# Altium footprint library MCU.PcbLib: 14 footprints
Each footprint in its own frame and in the unit in brackets; x right, y up, seen from the top. Pads: shape width x height; smd on the part's side, far side on the other; paste and mask are expansions set on the pad; w line width, h text height; cw(c..) or ccw(c..) is an arc to the next point about the centre after c.
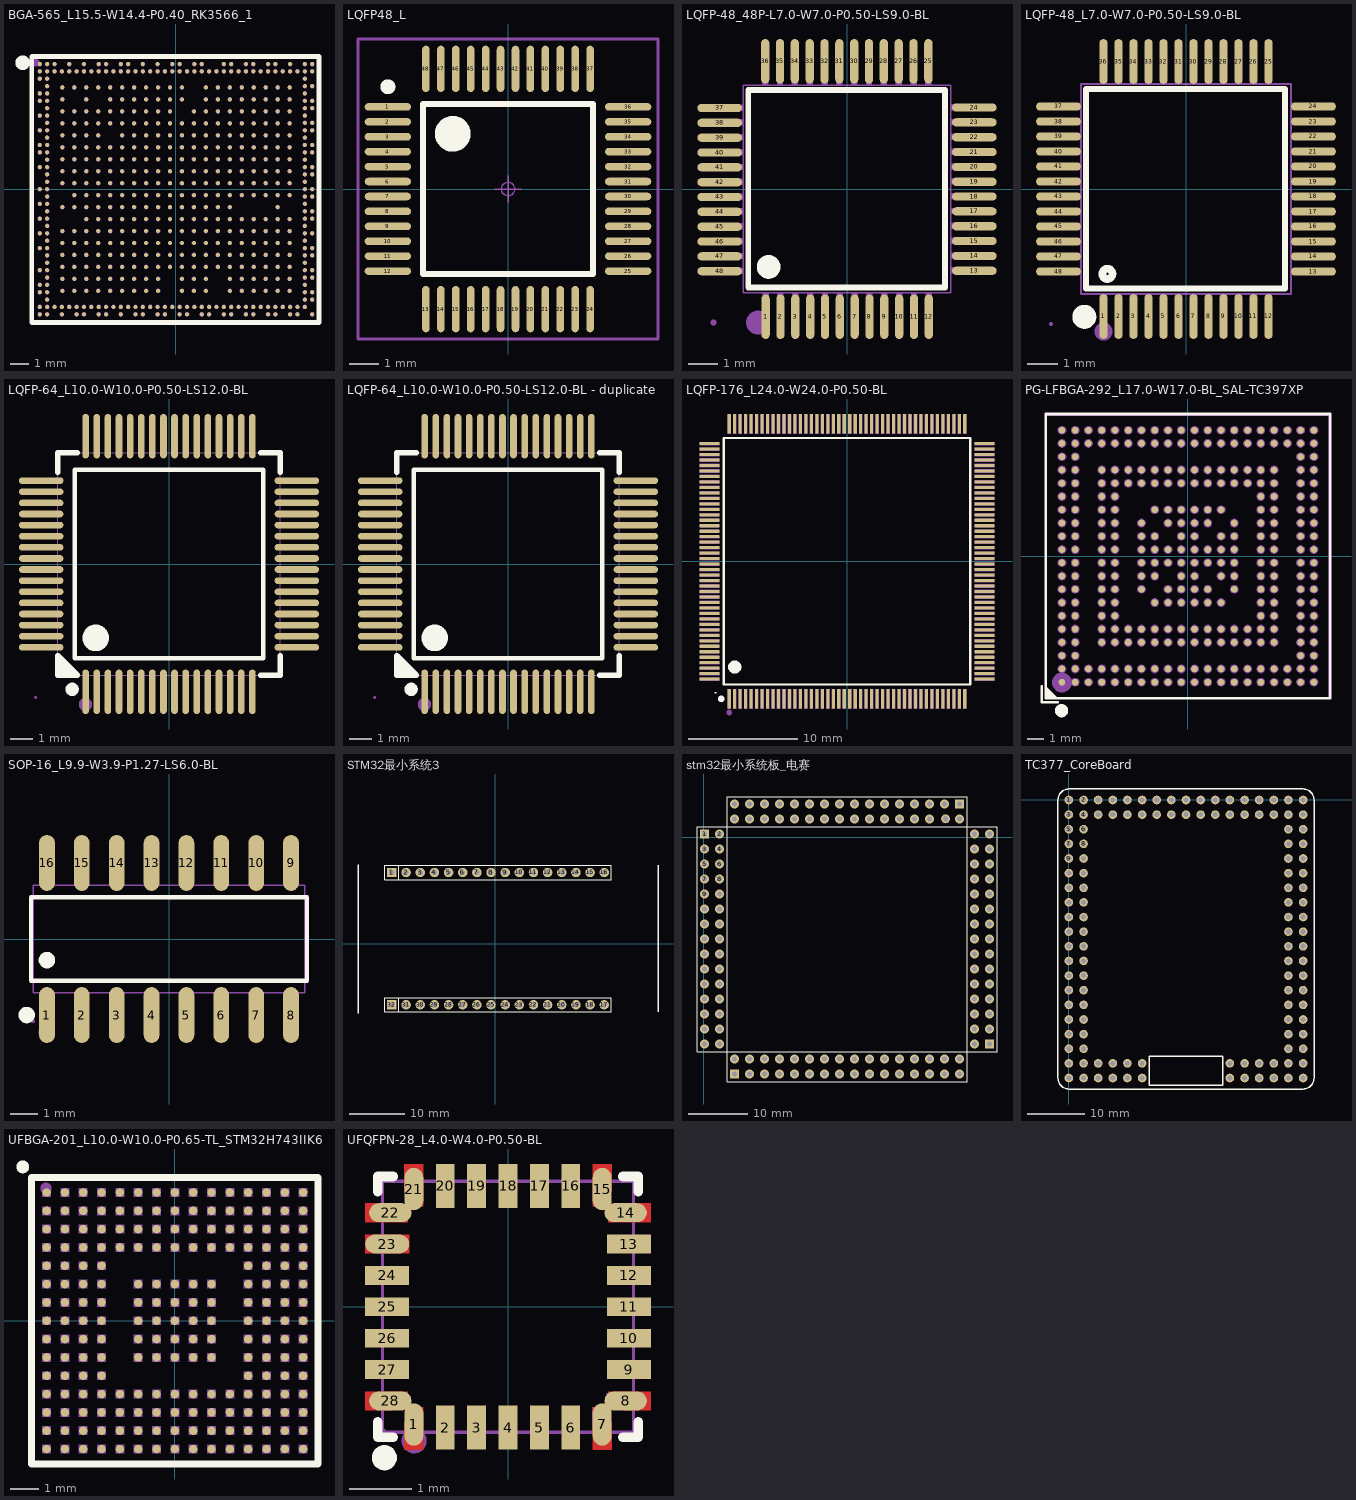
[diagram p0: the footprints below, top view; thin cyan lines are the x and y axes]

## BGA-565_L15.5-W14.4-P0.40_RK3566_1 [mm]
pads (565):
  round 0.22 smd: 1A1(-6.175,5.525) 1A2(-5.525,5.525) 1A3(-4.875,5.525) 1A4(-4.225,5.525) 1A5(-3.575,5.525) 1A6(-2.925,5.525) 1A7(-2.275,5.525) 1A8(-1.625,5.525) 1A9(-0.975,5.525) 1A10(-0.325,5.525) 1A11(0.325,5.525) 1A13(1.625,5.525) 1A14(2.275,5.525) 1A15(2.925,5.525) 1A16(3.575,5.525) 1A17(4.225,5.525) 1A18(4.875,5.525) 1A19(5.525,5.525) 1A20(6.175,5.525) 1B1(-6.175,4.875) 1B3(-4.875,4.875) 1B5(-3.575,4.875) 1B6(-2.925,4.875) 1B7(-2.275,4.875) 1B8(-1.625,4.875) 1B9(-0.975,4.875) 1B10(-0.325,4.875) 1B11(0.325,4.875) 1B13(1.625,4.875) 1B14(2.275,4.875) 1B15(2.925,4.875) 1B16(3.575,4.875) 1B17(4.225,4.875) 1B18(4.875,4.875) 1B19(5.525,4.875) 1B20(6.175,4.875) 1C1(-6.175,4.225) 1C2(-5.525,4.225) 1C3(-4.875,4.225) 1C4(-4.225,4.225) 1C5(-3.575,4.225) 1C6(-2.925,4.225) 1C7(-2.275,4.225) 1C8(-1.625,4.225) 1C9(-0.975,4.225) 1C10(-0.325,4.225) 1C12(0.975,4.225) 1C13(1.625,4.225) 1C14(2.275,4.225) 1C15(2.925,4.225) 1C16(3.575,4.225) 1C17(4.225,4.225) 1C18(4.875,4.225) 1C19(5.525,4.225) 1C20(6.175,4.225) 1D1(-6.175,3.575) 1D2(-5.525,3.575) 1D3(-4.875,3.575) 1D4(-4.225,3.575) 1D5(-3.575,3.575) 1D6(-2.925,3.575) 1D7(-2.275,3.575) 1D8(-1.625,3.575) 1D9(-0.975,3.575) 1D10(-0.325,3.575) 1D11(0.325,3.575) 1D12(0.975,3.575) 1D13(1.625,3.575) 1D14(2.275,3.575) 1D15(2.925,3.575) 1D16(3.575,3.575) 1D17(4.225,3.575) 1D18(4.875,3.575) 1D19(5.525,3.575) 1D20(6.175,3.575) 1E1(-6.175,2.925) 1E2(-5.525,2.925) 1E3(-4.875,2.925) 1E4(-4.225,2.925) 1E6(-2.925,2.925) 1E7(-2.275,2.925) 1E8(-1.625,2.925) 1E9(-0.975,2.925) 1E10(-0.325,2.925) 1E11(0.325,2.925) 1E12(0.975,2.925) 1E13(1.625,2.925) 1E14(2.275,2.925) 1E15(2.925,2.925) 1E16(3.575,2.925) 1E17(4.225,2.925) 1E18(4.875,2.925) 1E19(5.525,2.925) 1E20(6.175,2.925) 1F1(-6.175,2.275) 1F2(-5.525,2.275) 1F3(-4.875,2.275) 1F4(-4.225,2.275) 1F5(-3.575,2.275) 1F6(-2.925,2.275) 1F7(-2.275,2.275) 1F8(-1.625,2.275) 1F9(-0.975,2.275) 1F10(-0.325,2.275) 1F11(0.325,2.275) 1F12(0.975,2.275) 1F13(1.625,2.275) 1F14(2.275,2.275) 1F15(2.925,2.275) 1F16(3.575,2.275) 1F17(4.225,2.275) 1F18(4.875,2.275) 1F19(5.525,2.275) 1F20(6.175,2.275) 1G1(-6.175,1.625) 1G2(-5.525,1.625) 1G3(-4.875,1.625) 1G4(-4.225,1.625) 1G5(-3.575,1.625) 1G6(-2.925,1.625) 1G7(-2.275,1.625) 1G8(-1.625,1.625) 1G9(-0.975,1.625) 1G10(-0.325,1.625) 1G11(0.325,1.625) 1G12(0.975,1.625) 1G13(1.625,1.625) 1G14(2.275,1.625) 1G15(2.925,1.625) 1G16(3.575,1.625) 1G17(4.225,1.625) 1G18(4.875,1.625) 1G19(5.525,1.625) 1G20(6.175,1.625) 1H1(-6.175,0.975) 1H2(-5.525,0.975) 1H3(-4.875,0.975) 1H4(-4.225,0.975) 1H5(-3.575,0.975) 1H6(-2.925,0.975) 1H7(-2.275,0.975) 1H8(-1.625,0.975) 1H9(-0.975,0.975) 1H10(-0.325,0.975) 1H11(0.325,0.975) 1H12(0.975,0.975) 1H13(1.625,0.975) 1H14(2.275,0.975) 1H15(2.925,0.975) 1H16(3.575,0.975) 1H17(4.225,0.975) 1H18(4.875,0.975) 1H19(5.525,0.975) 1H20(6.175,0.975) 1J1(-6.175,0.325) 1J2(-5.525,0.325) 1J3(-4.875,0.325) 1J4(-4.225,0.325) 1J5(-3.575,0.325) 1J6(-2.925,0.325) 1J7(-2.275,0.325) 1J8(-1.625,0.325) 1J9(-0.975,0.325) 1J10(-0.325,0.325) 1J11(0.325,0.325) 1J12(0.975,0.325) 1J13(1.625,0.325) 1J14(2.275,0.325) 1J15(2.925,0.325) 1J16(3.575,0.325) 1J17(4.225,0.325) 1J18(4.875,0.325) 1J19(5.525,0.325) 1J20(6.175,0.325) 1K2(-5.525,-0.325) 1K3(-4.875,-0.325) 1K4(-4.225,-0.325) 1K5(-3.575,-0.325) 1K6(-2.925,-0.325) 1K7(-2.275,-0.325) 1K8(-1.625,-0.325) 1K9(-0.975,-0.325) 1K10(-0.325,-0.325) 1K11(0.325,-0.325) 1K12(0.975,-0.325) 1K13(1.625,-0.325) 1K14(2.275,-0.325) 1K15(2.925,-0.325) 1K16(3.575,-0.325) 1K17(4.225,-0.325) 1K18(4.875,-0.325) 1K19(5.525,-0.325) 1K20(6.175,-0.325) 1L1(-6.175,-0.975) 1L2(-5.525,-0.975) 1L3(-4.875,-0.975) 1L4(-4.225,-0.975) 1L5(-3.575,-0.975) 1L6(-2.925,-0.975) 1L7(-2.275,-0.975) 1L8(-1.625,-0.975) 1L9(-0.975,-0.975) 1L10(-0.325,-0.975) 1L11(0.325,-0.975) 1L12(0.975,-0.975) 1L13(1.625,-0.975) 1L14(2.275,-0.975) 1L15(2.925,-0.975) 1L19(5.525,-0.975) 1M3(-4.875,-1.625) 1M4(-4.225,-1.625) 1M5(-3.575,-1.625) 1M6(-2.925,-1.625) 1M7(-2.275,-1.625) 1M8(-1.625,-1.625) 1M9(-0.975,-1.625) 1M10(-0.325,-1.625) 1M11(0.325,-1.625) 1M12(0.975,-1.625) 1M13(1.625,-1.625) 1M14(2.275,-1.625) 1M15(2.925,-1.625) 1M16(3.575,-1.625) 1M17(4.225,-1.625) 1M18(4.875,-1.625) 1M19(5.525,-1.625) 1M20(6.175,-1.625) 1N1(-6.175,-2.275) 1N2(-5.525,-2.275) 1N3(-4.875,-2.275) 1N4(-4.225,-2.275) 1N5(-3.575,-2.275) 1N6(-2.925,-2.275) 1N7(-2.275,-2.275) 1N8(-1.625,-2.275) 1N9(-0.975,-2.275) 1N10(-0.325,-2.275) 1N11(0.325,-2.275) 1N12(0.975,-2.275) 1N13(1.625,-2.275) 1N14(2.275,-2.275) 1N15(2.925,-2.275) 1N16(3.575,-2.275) 1N17(4.225,-2.275) 1N18(4.875,-2.275) 1N19(5.525,-2.275) 1N20(6.175,-2.275) 1P1(-6.175,-2.925) 1P2(-5.525,-2.925) 1P3(-4.875,-2.925) 1P4(-4.225,-2.925) 1P5(-3.575,-2.925) 1P6(-2.925,-2.925) 1P7(-2.275,-2.925) 1P8(-1.625,-2.925) 1P9(-0.975,-2.925) 1P10(-0.325,-2.925) 1P11(0.325,-2.925) 1P12(0.975,-2.925) 1P13(1.625,-2.925) 1P14(2.275,-2.925) 1P15(2.925,-2.925) 1P16(3.575,-2.925) 1P17(4.225,-2.925) 1P18(4.875,-2.925) 1P19(5.525,-2.925) 1P20(6.175,-2.925) 1R1(-6.175,-3.575) 1R2(-5.525,-3.575) 1R3(-4.875,-3.575) 1R4(-4.225,-3.575) 1R5(-3.575,-3.575) 1R6(-2.925,-3.575) 1R7(-2.275,-3.575) 1R8(-1.625,-3.575) 1R9(-0.975,-3.575) 1R10(-0.325,-3.575) 1R11(0.325,-3.575) 1R12(0.975,-3.575) 1R13(1.625,-3.575) 1R14(2.275,-3.575) 1R15(2.925,-3.575) 1R16(3.575,-3.575) 1R17(4.225,-3.575) 1R18(4.875,-3.575) 1R19(5.525,-3.575) 1R20(6.175,-3.575) 1T1(-6.175,-4.225) 1T2(-5.525,-4.225) 1T3(-4.875,-4.225) 1T4(-4.225,-4.225) 1T5(-3.575,-4.225) 1T6(-2.925,-4.225) 1T7(-2.275,-4.225) 1T8(-1.625,-4.225) 1T9(-0.975,-4.225) 1T10(-0.325,-4.225) 1T11(0.325,-4.225) 1T12(0.975,-4.225) 1T13(1.625,-4.225) 1T14(2.275,-4.225) 1T15(2.925,-4.225) 1T16(3.575,-4.225) 1T17(4.225,-4.225) 1T18(4.875,-4.225) 1T19(5.525,-4.225) 1T20(6.175,-4.225) 1U1(-6.175,-4.875) 1U2(-5.525,-4.875) 1U3(-4.875,-4.875) 1U4(-4.225,-4.875) 1U5(-3.575,-4.875) 1U6(-2.925,-4.875) 1U7(-2.275,-4.875) 1U8(-1.625,-4.875) 1U9(-0.975,-4.875) 1U11(0.325,-4.875) 1U12(0.975,-4.875) 1U13(1.625,-4.875) 1U15(2.925,-4.875) 1U16(3.575,-4.875) 1U17(4.225,-4.875) 1U18(4.875,-4.875) 1U19(5.525,-4.875) 1U20(6.175,-4.875) 1V1(-6.175,-5.525) 1V2(-5.525,-5.525) 1V3(-4.875,-5.525) 1V4(-4.225,-5.525) 1V5(-3.575,-5.525) 1V6(-2.925,-5.525) 1V7(-2.275,-5.525) 1V8(-1.625,-5.525) 1V9(-0.975,-5.525) 1V11(0.325,-5.525) 1V12(0.975,-5.525) 1V13(1.625,-5.525) 1V15(2.925,-5.525) 1V16(3.575,-5.525) 1V17(4.225,-5.525) 1V18(4.875,-5.525) 1V19(5.525,-5.525) 1V20(6.175,-5.525)
  round 0.22 smd paste+0 mask+0.038: A1(-7.4,6.8) A2(-7,6.8) A3(-6.6,6.8) A5(-5.8,6.8) A7(-5,6.8) A9(-4.2,6.8) A10(-3.8,6.8) A12(-3,6.8) A13(-2.6,6.8) A15(-1.8,6.8) A17(-1,6.8) A19(-0.2,6.8) A20(0.2,6.8) A22(1,6.8) A23(1.4,6.8) A26(2.6,6.8) A27(3,6.8) A29(3.8,6.8) A30(4.2,6.8) A32(5,6.8) A33(5.4,6.8) A35(6.2,6.8) A37(7,6.8) A38(7.4,6.8) AA2(-7,-1.2) AA37(7,-1.2) AA38(7.4,-1.2) AB1(-7.4,-1.6) AB2(-7,-1.6) AB37(7,-1.6) AB38(7.4,-1.6) AC2(-7,-2) AC37(7,-2) AD1(-7.4,-2.4) AD2(-7,-2.4) AD37(7,-2.4) AD38(7.4,-2.4) AE2(-7,-2.8) AE37(7,-2.8) AF1(-7.4,-3.2) AF2(-7,-3.2) AF37(7,-3.2) AF38(7.4,-3.2) AG2(-7,-3.6) AG37(7,-3.6) AG38(7.4,-3.6) AH2(-7,-4) AH37(7,-4) AJ1(-7.4,-4.4) AJ2(-7,-4.4) AJ37(7,-4.4) AJ38(7.4,-4.4) AK2(-7,-4.8) AK37(7,-4.8) AK38(7.4,-4.8) AL1(-7.4,-5.2) AL2(-7,-5.2) AL37(7,-5.2) AM1(-7.4,-5.6) AM2(-7,-5.6) AM37(7,-5.6) AM38(7.4,-5.6) AN2(-7,-6) AN37(7,-6) AN38(7.4,-6) AP1(-7.4,-6.4) AP2(-7,-6.4) AP3(-6.6,-6.4) AP4(-6.2,-6.4) AP5(-5.8,-6.4) AP6(-5.4,-6.4) AP7(-5,-6.4) AP8(-4.6,-6.4) AP9(-4.2,-6.4) AP10(-3.8,-6.4) AP11(-3.4,-6.4) AP12(-3,-6.4) AP13(-2.6,-6.4) AP14(-2.2,-6.4) AP15(-1.8,-6.4) AP16(-1.4,-6.4) AP17(-1,-6.4) AP18(-0.6,-6.4) AP19(-0.2,-6.4) AP20(0.2,-6.4) AP21(0.6,-6.4) AP22(1,-6.4) AP23(1.4,-6.4) AP24(1.8,-6.4) AP25(2.2,-6.4) AP26(2.6,-6.4) AP27(3,-6.4) AP28(3.4,-6.4) AP29(3.8,-6.4) AP30(4.2,-6.4) AP31(4.6,-6.4) AP32(5,-6.4) AP33(5.4,-6.4) AP34(5.8,-6.4) AP35(6.2,-6.4) AP36(6.6,-6.4) AP37(7,-6.4) AR1(-7.4,-6.8) AR2(-7,-6.8) AR4(-6.2,-6.8) AR6(-5.4,-6.8) AR7(-5,-6.8) AR9(-4.2,-6.8) AR10(-3.8,-6.8) AR12(-3,-6.8) AR14(-2.2,-6.8) AR15(-1.8,-6.8) AR17(-1,-6.8) AR18(-0.6,-6.8) AR20(0.2,-6.8) AR21(0.6,-6.8) AR23(1.4,-6.8) AR24(1.8,-6.8) AR26(2.6,-6.8) AR27(3,-6.8) AR29(3.8,-6.8) AR30(4.2,-6.8) AR32(5,-6.8) AR33(5.4,-6.8) AR35(6.2,-6.8) AR36(6.6,-6.8) AR38(7.4,-6.8) B1(-7.4,6.4) B2(-7,6.4) B3(-6.6,6.4) B4(-6.2,6.4) B5(-5.8,6.4) B6(-5.4,6.4) B7(-5,6.4) B8(-4.6,6.4) B9(-4.2,6.4) B10(-3.8,6.4) B11(-3.4,6.4) B12(-3,6.4) B13(-2.6,6.4) B14(-2.2,6.4) B15(-1.8,6.4) B16(-1.4,6.4) B17(-1,6.4) B18(-0.6,6.4) B19(-0.2,6.4) B20(0.2,6.4) B21(0.6,6.4) B22(1,6.4) B23(1.4,6.4) B24(1.8,6.4) B25(2.2,6.4) B26(2.6,6.4) B27(3,6.4) B28(3.4,6.4) B29(3.8,6.4) B30(4.2,6.4) B31(4.6,6.4) B32(5,6.4) B33(5.4,6.4) B34(5.8,6.4) B35(6.2,6.4) B36(6.6,6.4) B37(7,6.4) B38(7.4,6.4) C1(-7.4,6) C2(-7,6) C37(7,6) D2(-7,5.6) D37(7,5.6) D38(7.4,5.6) E1(-7.4,5.2) E2(-7,5.2) E37(7,5.2) F1(-7.4,4.8) F2(-7,4.8) F37(7,4.8) F38(7.4,4.8) G2(-7,4.4) G37(7,4.4) G38(7.4,4.4) H1(-7.4,4) H2(-7,4) H37(7,4) J2(-7,3.6) J37(7,3.6) J38(7.4,3.6) K1(-7.4,3.2) K2(-7,3.2) K37(7,3.2) K38(7.4,3.2) L2(-7,2.8) L37(7,2.8) M1(-7.4,2.4) M2(-7,2.4) M37(7,2.4) M38(7.4,2.4) N1(-7.4,2) N2(-7,2) N37(7,2) N38(7.4,2) P2(-7,1.6) P37(7,1.6) R1(-7.4,1.2) R2(-7,1.2) R37(7,1.2) R38(7.4,1.2) T2(-7,0.8) T37(7,0.8) T38(7.4,0.8) U2(-7,0.4) U37(7,0.4) V1(-7.4,0) V2(-7,0) V37(7,0) V38(7.4,0) W2(-7,-0.4) W37(7,-0.4) W38(7.4,-0.4) Y1(-7.4,-0.8) Y2(-7,-0.8) Y37(7,-0.8)
Top Overlay:
  circle w0.4: c-8.33,6.87 r0.2
  lines w0.254: -7.83,-7.24 -7.83,7.21 7.77,7.21 7.77,-7.24 -7.83,-7.24
Mechanical 6:
  circle w0.2: c-7.61,6.87 r0.1
Mechanical 15:
  drawing of 570 lines, arcs and shapes, not listed

## LQFP48_L [mm] "Thin QFP, 48-Leads, Body 7x7mm, Pitch 0.5mm, IPC High Density"
height 1.6
pads (48):
  oval 1.55x0.254 smd: 1(-4.025,2.75) 2(-4.025,2.25) 3(-4.025,1.75) 4(-4.025,1.25) 5(-4.025,0.75) 6(-4.025,0.25) 7(-4.025,-0.25) 8(-4.025,-0.75) 9(-4.025,-1.25) 10(-4.025,-1.75) 11(-4.025,-2.25) 12(-4.025,-2.75) 25(4.025,-2.75) 26(4.025,-2.25) 27(4.025,-1.75) 28(4.025,-1.25) 29(4.025,-0.75) 30(4.025,-0.25) 31(4.025,0.25) 32(4.025,0.75) 33(4.025,1.25) 34(4.025,1.75) 35(4.025,2.25) 36(4.025,2.75)
  oval 0.254x1.55 smd: 13(-2.75,-4.025) 14(-2.25,-4.025) 15(-1.75,-4.025) 16(-1.25,-4.025) 17(-0.75,-4.025) 18(-0.25,-4.025) 19(0.25,-4.025) 20(0.75,-4.025) 21(1.25,-4.025) 22(1.75,-4.025) 23(2.25,-4.025) 24(2.75,-4.025) 37(2.75,4.025) 38(2.25,4.025) 39(1.75,4.025) 40(1.25,4.025) 41(0.75,4.025) 42(0.25,4.025) 43(-0.25,4.025) 44(-0.75,4.025) 45(-1.25,4.025) 46(-1.75,4.025) 47(-2.25,4.025) 48(-2.75,4.025)
Top Overlay:
  circle w0.25: c-4.025,3.425 r0.125
  circle w0.6: c-1.85,1.85 r0.3
  lines w0.2: -2.85,-2.85 -2.85,2.85 2.85,2.85 2.85,-2.85 -2.85,-2.85
Top Designator:
  text ".Designator" at -2.252,-0.226 h1
Top Component Outline:
  lines w0.1: -5.025,-5.025 -5.025,5.025 5.025,5.025 5.025,-5.025 -5.025,-5.025
Top Component Center:
  circle w0.05: c0,0 r0.225
  lines w0.05: -0.45,0 0.45,0 ; 0,-0.45 0,0.45
3D body "User Library-LQFP48_Grid_0_5.STEP": height 1.6, standoff 0, extent -4.5,-4.5 4.5,4.5

## LQFP-48_48P-L7.0-W7.0-P0.50-LS9.0-BL [mm]
pads (48):
  oval 0.28x1.5 smd: 1(-2.743,-4.305) 2(-2.243,-4.305) 3(-1.742,-4.305) 4(-1.242,-4.305) 5(-0.742,-4.305) 6(-0.241,-4.305) 7(0.257,-4.305) 8(0.757,-4.305) 9(1.257,-4.305) 10(1.758,-4.305) 11(2.258,-4.305) 12(2.758,-4.305) 25(2.743,4.305) 26(2.243,4.305) 27(1.742,4.305) 28(1.242,4.305) 29(0.742,4.305) 30(0.241,4.305) 31(-0.257,4.305) 32(-0.757,4.305) 33(-1.257,4.305) 34(-1.758,4.305) 35(-2.258,4.305) 36(-2.758,4.305)
  oval 1.5x0.28 smd: 13(4.293,-2.756) 14(4.293,-2.256) 15(4.293,-1.755) 16(4.293,-1.255) 17(4.293,-0.754) 18(4.293,-0.254) 19(4.293,0.244) 20(4.293,0.744) 21(4.293,1.245) 22(4.293,1.745) 23(4.293,2.245) 24(4.293,2.746) 37(-4.293,2.73) 38(-4.293,2.23) 39(-4.293,1.73) 40(-4.293,1.229) 41(-4.293,0.729) 42(-4.293,0.229) 43(-4.293,-0.269) 44(-4.293,-0.77) 45(-4.293,-1.27) 46(-4.293,-1.77) 47(-4.293,-2.271) 48(-4.293,-2.771)
Top Overlay:
  lines w0.2: -2.896,3.34 3.302,3.34 3.302,-3.315 -3.327,-3.315 -3.327,3.34 -2.565,3.34
  lines w0.4: -2.642,-2.426 ccw(c-2.64,-2.626) -2.639,-2.426
Mechanical 6:
  circle w0.4: c-3,-4.5 r0.2
Mechanical 15:
  drawing of 101 lines, arcs and shapes, not listed

## LQFP-48_L7.0-W7.0-P0.50-LS9.0-BL [mm]
pads (48):
  oval 0.27x1.5 smd paste+0 mask+0.05: 1(-2.75,-4.25) 2(-2.25,-4.25) 3(-1.75,-4.25) 4(-1.25,-4.25) 5(-0.75,-4.25) 6(-0.25,-4.25) 7(0.25,-4.25) 8(0.75,-4.25) 9(1.25,-4.25) 10(1.75,-4.25) 11(2.25,-4.25) 12(2.75,-4.25) 25(2.75,4.25) 26(2.25,4.25) 27(1.75,4.25) 28(1.25,4.25) 29(0.75,4.25) 30(0.25,4.25) 31(-0.25,4.25) 32(-0.75,4.25) 33(-1.25,4.25) 34(-1.75,4.25) 35(-2.25,4.25) 36(-2.75,4.25)
  oval 1.5x0.27 smd paste+0 mask+0.05: 13(4.25,-2.75) 14(4.25,-2.25) 15(4.25,-1.75) 16(4.25,-1.25) 17(4.25,-0.75) 18(4.25,-0.25) 19(4.25,0.25) 20(4.25,0.75) 21(4.25,1.25) 22(4.25,1.75) 23(4.25,2.25) 24(4.25,2.75) 37(-4.25,2.75) 38(-4.25,2.25) 39(-4.25,1.75) 40(-4.25,1.25) 41(-4.25,0.75) 42(-4.25,0.25) 43(-4.25,-0.25) 44(-4.25,-0.75) 45(-4.25,-1.25) 46(-4.25,-1.75) 47(-4.25,-2.25) 48(-4.25,-2.75)
Top Overlay:
  circle w0.254: c-2.62,-2.83 r0.17
  lines w0.2: -2.896,3.34 3.302,3.34 3.302,-3.315 -3.327,-3.315 -3.327,3.34 -2.565,3.34
  lines w0.4: -3.39,-4.06 ccw(c-3.389,-4.26) -3.387,-4.06
Mechanical 6:
  circle w0.3: c-2.75,-4.75 r0.15
Mechanical 15:
  drawing of 101 lines, arcs and shapes, not listed

## LQFP-64_L10.0-W10.0-P0.50-LS12.0-BL [mm]
pads (64):
  oval 0.3x2 smd: 1(-3.75,-5.75) 2(-3.25,-5.75) 3(-2.75,-5.75) 4(-2.25,-5.75) 5(-1.75,-5.75) 6(-1.25,-5.75) 7(-0.75,-5.75) 8(-0.25,-5.75) 9(0.25,-5.75) 10(0.75,-5.75) 11(1.25,-5.75) 12(1.75,-5.75) 13(2.25,-5.75) 14(2.75,-5.75) 15(3.25,-5.75) 16(3.75,-5.75) 33(3.75,5.75) 34(3.25,5.75) 35(2.75,5.75) 36(2.25,5.75) 37(1.75,5.75) 38(1.25,5.75) 39(0.75,5.75) 40(0.25,5.75) 41(-0.25,5.75) 42(-0.75,5.75) 43(-1.25,5.75) 44(-1.75,5.75) 45(-2.25,5.75) 46(-2.75,5.75) 47(-3.25,5.75) 48(-3.75,5.75)
  oval 2x0.3 smd: 17(5.75,-3.75) 18(5.75,-3.25) 19(5.75,-2.75) 20(5.75,-2.25) 21(5.75,-1.75) 22(5.75,-1.25) 23(5.75,-0.75) 24(5.75,-0.25) 25(5.75,0.25) 26(5.75,0.75) 27(5.75,1.25) 28(5.75,1.75) 29(5.75,2.25) 30(5.75,2.75) 31(5.75,3.25) 32(5.75,3.75) 49(-5.75,3.75) 50(-5.75,3.25) 51(-5.75,2.75) 52(-5.75,2.25) 53(-5.75,1.75) 54(-5.75,1.25) 55(-5.75,0.75) 56(-5.75,0.25) 57(-5.75,-0.25) 58(-5.75,-0.75) 59(-5.75,-1.25) 60(-5.75,-1.75) 61(-5.75,-2.25) 62(-5.75,-2.75) 63(-5.75,-3.25) 64(-5.75,-3.75)
Top Overlay:
  region: -4.131,-5 -5,-4.131 -5,-5
  lines w0.2: -4.25,-4.25 4.25,-4.25 4.25,4.25 -4.25,4.25 -4.25,-4.25
  lines w0.254: -5,4.131 -5,5 -4.131,5 ; 4.131,-5 5,-5 5,-4.131 ; 4.131,5 5,5 5,4.131 ; -5,-4.131 -5,-5 -4.131,-5 -5,-4.131 ; -5,-4.131 -5,-4.131
  lines w0.3: -4.361,-5.49 ccw(c-4.36,-5.64) -4.359,-5.49
  lines w0.6: -3.299,-3.025 ccw(c-3.297,-3.325) -3.294,-3.025
Mechanical 6:
  circle w0.3: c-3.76,-6.32 r0.15
Mechanical 15:
  drawing of 133 lines, arcs and shapes, not listed

## LQFP-64_L10.0-W10.0-P0.50-LS12.0-BL - duplicate [mm]
pads (64):
  oval 0.3x2 smd: 1(-3.75,-5.75) 2(-3.25,-5.75) 3(-2.75,-5.75) 4(-2.25,-5.75) 5(-1.75,-5.75) 6(-1.25,-5.75) 7(-0.75,-5.75) 8(-0.25,-5.75) 9(0.25,-5.75) 10(0.75,-5.75) 11(1.25,-5.75) 12(1.75,-5.75) 13(2.25,-5.75) 14(2.75,-5.75) 15(3.25,-5.75) 16(3.75,-5.75) 33(3.75,5.75) 34(3.25,5.75) 35(2.75,5.75) 36(2.25,5.75) 37(1.75,5.75) 38(1.25,5.75) 39(0.75,5.75) 40(0.25,5.75) 41(-0.25,5.75) 42(-0.75,5.75) 43(-1.25,5.75) 44(-1.75,5.75) 45(-2.25,5.75) 46(-2.75,5.75) 47(-3.25,5.75) 48(-3.75,5.75)
  oval 2x0.3 smd: 17(5.75,-3.75) 18(5.75,-3.25) 19(5.75,-2.75) 20(5.75,-2.25) 21(5.75,-1.75) 22(5.75,-1.25) 23(5.75,-0.75) 24(5.75,-0.25) 25(5.75,0.25) 26(5.75,0.75) 27(5.75,1.25) 28(5.75,1.75) 29(5.75,2.25) 30(5.75,2.75) 31(5.75,3.25) 32(5.75,3.75) 49(-5.75,3.75) 50(-5.75,3.25) 51(-5.75,2.75) 52(-5.75,2.25) 53(-5.75,1.75) 54(-5.75,1.25) 55(-5.75,0.75) 56(-5.75,0.25) 57(-5.75,-0.25) 58(-5.75,-0.75) 59(-5.75,-1.25) 60(-5.75,-1.75) 61(-5.75,-2.25) 62(-5.75,-2.75) 63(-5.75,-3.25) 64(-5.75,-3.75)
Top Overlay:
  region: -4.131,-5 -5,-4.131 -5,-5
  lines w0.2: -4.25,-4.25 -4.25,4.25 4.25,4.25 4.25,-4.25 -4.25,-4.25
  lines w0.254: -5,4.131 -5,5 -4.131,5 ; 4.131,-5 5,-5 5,-4.131 ; 4.131,5 5,5 5,4.131 ; -5,-4.131 -5,-4.131 ; -5,-4.131 -4.131,-5 -5,-5 -5,-4.131
  lines w0.3: -4.361,-5.49 ccw(c-4.36,-5.64) -4.359,-5.49
  lines w0.6: -3.299,-3.025 ccw(c-3.297,-3.325) -3.294,-3.025
Mechanical 6:
  circle w0.3: c-3.76,-6.32 r0.15
Mechanical 15:
  drawing of 133 lines, arcs and shapes, not listed

## LQFP-176_L24.0-W24.0-P0.50-BL [mm] "LQFP-176(24x24); LQFP-176; TQFP-176(24x24); VFBGA-176(10x10)"
height 3090.78
pads (176):
  rrect25% 0.28x1.8 smd mask+0.05: 1(-10.75,-12.55) 2(-10.25,-12.55) 3(-9.75,-12.55) 4(-9.25,-12.55) 5(-8.75,-12.55) 6(-8.25,-12.55) 7(-7.75,-12.55) 8(-7.25,-12.55) 9(-6.75,-12.55) 10(-6.25,-12.55) 11(-5.75,-12.55) 12(-5.25,-12.55) 13(-4.75,-12.55) 14(-4.25,-12.55) 15(-3.75,-12.55) 16(-3.25,-12.55) 17(-2.75,-12.55) 18(-2.25,-12.55) 19(-1.75,-12.55) 20(-1.25,-12.55) 21(-0.75,-12.55) 22(-0.25,-12.55) 23(0.25,-12.55) 24(0.75,-12.55) 25(1.25,-12.55) 26(1.75,-12.55) 27(2.25,-12.55) 28(2.75,-12.55) 29(3.25,-12.55) 30(3.75,-12.55) 31(4.25,-12.55) 32(4.75,-12.55) 33(5.25,-12.55) 34(5.75,-12.55) 35(6.25,-12.55) 36(6.75,-12.55) 37(7.25,-12.55) 38(7.75,-12.55) 39(8.25,-12.55) 40(8.75,-12.55) 41(9.25,-12.55) 42(9.75,-12.55) 43(10.25,-12.55) 44(10.75,-12.55) 89(10.75,12.55) 90(10.25,12.55) 91(9.75,12.55) 92(9.25,12.55) 93(8.75,12.55) 94(8.25,12.55) 95(7.75,12.55) 96(7.25,12.55) 97(6.75,12.55) 98(6.25,12.55) 99(5.75,12.55) 100(5.25,12.55) 101(4.75,12.55) 102(4.25,12.55) 103(3.75,12.55) 104(3.25,12.55) 105(2.75,12.55) 106(2.25,12.55) 107(1.75,12.55) 108(1.25,12.55) 109(0.75,12.55) 110(0.25,12.55) 111(-0.25,12.55) 112(-0.75,12.55) 113(-1.25,12.55) 114(-1.75,12.55) 115(-2.25,12.55) 116(-2.75,12.55) 117(-3.25,12.55) 118(-3.75,12.55) 119(-4.25,12.55) 120(-4.75,12.55) 121(-5.25,12.55) 122(-5.75,12.55) 123(-6.25,12.55) 124(-6.75,12.55) 125(-7.25,12.55) 126(-7.75,12.55) 127(-8.25,12.55) 128(-8.75,12.55) 129(-9.25,12.55) 130(-9.75,12.55) 131(-10.25,12.55) 132(-10.75,12.55)
  rrect25% 1.8x0.28 smd mask+0.05: 45(12.55,-10.75) 46(12.55,-10.25) 47(12.55,-9.75) 48(12.55,-9.25) 49(12.55,-8.75) 50(12.55,-8.25) 51(12.55,-7.75) 52(12.55,-7.25) 53(12.55,-6.75) 54(12.55,-6.25) 55(12.55,-5.75) 56(12.55,-5.25) 57(12.55,-4.75) 58(12.55,-4.25) 59(12.55,-3.75) 60(12.55,-3.25) 61(12.55,-2.75) 62(12.55,-2.25) 63(12.55,-1.75) 64(12.55,-1.25) 65(12.55,-0.75) 66(12.55,-0.25) 67(12.55,0.25) 68(12.55,0.75) 69(12.55,1.25) 70(12.55,1.75) 71(12.55,2.25) 72(12.55,2.75) 73(12.55,3.25) 74(12.55,3.75) 75(12.55,4.25) 76(12.55,4.75) 77(12.55,5.25) 78(12.55,5.75) 79(12.55,6.25) 80(12.55,6.75) 81(12.55,7.25) 82(12.55,7.75) 83(12.55,8.25) 84(12.55,8.75) 85(12.55,9.25) 86(12.55,9.75) 87(12.55,10.25) 88(12.55,10.75) 133(-12.55,10.75) 134(-12.55,10.25) 135(-12.55,9.75) 136(-12.55,9.25) 137(-12.55,8.75) 138(-12.55,8.25) 139(-12.55,7.75) 140(-12.55,7.25) 141(-12.55,6.75) 142(-12.55,6.25) 143(-12.55,5.75) 144(-12.55,5.25) 145(-12.55,4.75) 146(-12.55,4.25) 147(-12.55,3.75) 148(-12.55,3.25) 149(-12.55,2.75) 150(-12.55,2.25) 151(-12.55,1.75) 152(-12.55,1.25) 153(-12.55,0.75) 154(-12.55,0.25) 155(-12.55,-0.25) 156(-12.55,-0.75) 157(-12.55,-1.25) 158(-12.55,-1.75) 159(-12.55,-2.25) 160(-12.55,-2.75) 161(-12.55,-3.25) 162(-12.55,-3.75) 163(-12.55,-4.25) 164(-12.55,-4.75) 165(-12.55,-5.25) 166(-12.55,-5.75) 167(-12.55,-6.25) 168(-12.55,-6.75) 169(-12.55,-7.25) 170(-12.55,-7.75) 171(-12.55,-8.25) 172(-12.55,-8.75) 173(-12.55,-9.25) 174(-12.55,-9.75) 175(-12.55,-10.25) 176(-12.55,-10.75)
Top Overlay:
  region: -11.941,-11.993 -11.942,-11.981 -11.945,-11.97 -11.951,-11.96 -11.958,-11.951 -11.967,-11.943 -11.978,-11.938 -11.989,-11.934 -12.001,-11.933 -12.012,-11.934 -12.024,-11.938 -12.034,-11.943 -12.043,-11.951 -12.051,-11.96 -12.056,-11.97 -12.059,-11.981 -12.061,-11.993 -12.059,-12.005 -12.056,-12.016 -12.051,-12.027 -12.043,-12.036 -12.034,-12.043 -12.024,-12.049 -12.012,-12.052 -12.001,-12.053 -11.989,-12.052 -11.978,-12.049 -11.967,-12.043 -11.958,-12.036 -11.951,-12.027 -11.945,-12.016 -11.942,-12.005
  lines w0.2: -11.25,-11.25 -11.25,11.25 11.25,11.25 11.25,-11.25 -11.25,-11.25
  lines w0.3: -11.481,-12.697 -11.455,-12.695 -11.43,-12.689 -11.406,-12.678 -11.385,-12.663 -11.366,-12.645 -11.351,-12.624 -11.34,-12.6 -11.333,-12.575 -11.33,-12.549 -11.332,-12.523 -11.338,-12.498 -11.349,-12.474 -11.364,-12.452 -11.382,-12.434 -11.403,-12.418 -11.427,-12.407 -11.452,-12.4 -11.478,-12.397 -11.504,-12.399 -11.529,-12.405 -11.553,-12.416 -11.574,-12.43 -11.593,-12.449 -11.608,-12.47 -11.62,-12.493 -11.627,-12.518 -11.63,-12.544 -11.628,-12.57 -11.622,-12.595 -11.612,-12.619 -11.597,-12.641 -11.579,-12.66 -11.558,-12.675 -11.535,-12.687 -11.51,-12.694 -11.479,-12.697
  lines w0.6: -10.249,-9.949 -10.197,-9.945 -10.146,-9.932 -10.099,-9.91 -10.056,-9.881 -10.019,-9.845 -9.988,-9.802 -9.966,-9.755 -9.952,-9.705 -9.946,-9.653 -9.95,-9.601 -9.963,-9.55 -9.984,-9.503 -10.014,-9.46 -10.05,-9.422 -10.092,-9.392 -10.139,-9.369 -10.189,-9.355 -10.241,-9.349 -10.293,-9.353 -10.344,-9.365 -10.392,-9.387 -10.435,-9.416 -10.472,-9.452 -10.503,-9.494 -10.526,-9.541 -10.541,-9.591 -10.546,-9.643 -10.543,-9.695 -10.53,-9.746 -10.509,-9.793 -10.481,-9.837 -10.445,-9.874 -10.403,-9.905 -10.356,-9.929 -10.306,-9.943 -10.244,-9.949
Bottom Component Outline:
  circle w0.254: c-10.759,-13.8 r0.131
Mechanical 9:
  drawing of 176 lines, arcs and shapes, not listed
3D body "LQFP-176_L24.0-W24.0-H1.4-LS26.0-P0.50.step": height 1.4, standoff 0, extent -12,-12 12,12

## PG-LFBGA-292_L17.0-W17.0-BL_SAL-TC397XP [mm]
pads (292):
  round 0.4 smd paste-100 mask+0.05: A1(-7.6,-7.6) A2(-7.6,-6.8) A3(-7.6,-6) A4(-7.6,-5.2) A5(-7.6,-4.4) A6(-7.6,-3.6) A7(-7.6,-2.8) A8(-7.6,-2) A9(-7.6,-1.2) A10(-7.6,-0.4) A11(-7.6,0.4) A12(-7.6,1.2) A13(-7.6,2) A14(-7.6,2.8) A15(-7.6,3.6) A16(-7.6,4.4) A17(-7.6,5.2) A18(-7.6,6) A19(-7.6,6.8) A20(-7.6,7.6) B1(-6.8,-7.6) B2(-6.8,-6.8) B3(-6.8,-6) B4(-6.8,-5.2) B5(-6.8,-4.4) B6(-6.8,-3.6) B7(-6.8,-2.8) B8(-6.8,-2) B9(-6.8,-1.2) B10(-6.8,-0.4) B11(-6.8,0.4) B12(-6.8,1.2) B13(-6.8,2) B14(-6.8,2.8) B15(-6.8,3.6) B16(-6.8,4.4) B17(-6.8,5.2) B18(-6.8,6) B19(-6.8,6.8) B20(-6.8,7.6) C1(-6,-7.6) C2(-6,-6.8) C19(-6,6.8) C20(-6,7.6) D1(-5.2,-7.6) D2(-5.2,-6.8) D4(-5.2,-5.2) D5(-5.2,-4.4) D6(-5.2,-3.6) D7(-5.2,-2.8) D8(-5.2,-2) D9(-5.2,-1.2) D10(-5.2,-0.4) D11(-5.2,0.4) D12(-5.2,1.2) D13(-5.2,2) D14(-5.2,2.8) D15(-5.2,3.6) D16(-5.2,4.4) D17(-5.2,5.2) D19(-5.2,6.8) D20(-5.2,7.6) E1(-4.4,-7.6) E2(-4.4,-6.8) E4(-4.4,-5.2) E5(-4.4,-4.4) E6(-4.4,-3.6) E7(-4.4,-2.8) E8(-4.4,-2) E9(-4.4,-1.2) E10(-4.4,-0.4) E11(-4.4,0.4) E12(-4.4,1.2) E13(-4.4,2) E14(-4.4,2.8) E15(-4.4,3.6) E16(-4.4,4.4) E17(-4.4,5.2) E19(-4.4,6.8) E20(-4.4,7.6) F1(-3.6,-7.6) F2(-3.6,-6.8) F4(-3.6,-5.2) F5(-3.6,-4.4) F16(-3.6,4.4) F17(-3.6,5.2) F19(-3.6,6.8) F20(-3.6,7.6) G1(-2.8,-7.6) G2(-2.8,-6.8) G4(-2.8,-5.2) G5(-2.8,-4.4) G8(-2.8,-2) G9(-2.8,-1.2) G10(-2.8,-0.4) G11(-2.8,0.4) G12(-2.8,1.2) G13(-2.8,2) G16(-2.8,4.4) G17(-2.8,5.2) G19(-2.8,6.8) G20(-2.8,7.6) H1(-2,-7.6) H2(-2,-6.8) H4(-2,-5.2) H5(-2,-4.4) H7(-2,-2.8) H9(-2,-1.2) H10(-2,-0.4) H11(-2,0.4) H12(-2,1.2) H14(-2,2.8) H16(-2,4.4) H17(-2,5.2) H19(-2,6.8) H20(-2,7.6) J1(-1.2,-7.6) J2(-1.2,-6.8) J4(-1.2,-5.2) J5(-1.2,-4.4) J7(-1.2,-2.8) J8(-1.2,-2) J10(-1.2,-0.4) J11(-1.2,0.4) J13(-1.2,2) J14(-1.2,2.8) J16(-1.2,4.4) J17(-1.2,5.2) J19(-1.2,6.8) J20(-1.2,7.6) K1(-0.4,-7.6) K2(-0.4,-6.8) K4(-0.4,-5.2) K5(-0.4,-4.4) K7(-0.4,-2.8) K8(-0.4,-2) K9(-0.4,-1.2) K10(-0.4,-0.4) K11(-0.4,0.4) K12(-0.4,1.2) K13(-0.4,2) K14(-0.4,2.8) K16(-0.4,4.4) K17(-0.4,5.2) K19(-0.4,6.8) K20(-0.4,7.6) L1(0.4,-7.6) L2(0.4,-6.8) L4(0.4,-5.2) L5(0.4,-4.4) L7(0.4,-2.8) L8(0.4,-2) L9(0.4,-1.2) L10(0.4,-0.4) L11(0.4,0.4) L12(0.4,1.2) L13(0.4,2) L14(0.4,2.8) L16(0.4,4.4) L17(0.4,5.2) L19(0.4,6.8) L20(0.4,7.6) M1(1.2,-7.6) M2(1.2,-6.8) M4(1.2,-5.2) M5(1.2,-4.4) M7(1.2,-2.8) M8(1.2,-2) M10(1.2,-0.4) M11(1.2,0.4) M13(1.2,2) M14(1.2,2.8) M16(1.2,4.4) M17(1.2,5.2) M19(1.2,6.8) M20(1.2,7.6) N1(2,-7.6) N2(2,-6.8) N4(2,-5.2) N5(2,-4.4) N7(2,-2.8) N9(2,-1.2) N10(2,-0.4) N11(2,0.4) N12(2,1.2) N14(2,2.8) N16(2,4.4) N17(2,5.2) N19(2,6.8) N20(2,7.6) P1(2.8,-7.6) P2(2.8,-6.8) P4(2.8,-5.2) P5(2.8,-4.4) P8(2.8,-2) P9(2.8,-1.2) P10(2.8,-0.4) P11(2.8,0.4) P12(2.8,1.2) P13(2.8,2) P16(2.8,4.4) P17(2.8,5.2) P19(2.8,6.8) P20(2.8,7.6) R1(3.6,-7.6) R2(3.6,-6.8) R4(3.6,-5.2) R5(3.6,-4.4) R16(3.6,4.4) R17(3.6,5.2) R19(3.6,6.8) R20(3.6,7.6) T1(4.4,-7.6) T2(4.4,-6.8) T4(4.4,-5.2) T5(4.4,-4.4) T6(4.4,-3.6) T7(4.4,-2.8) T8(4.4,-2) T9(4.4,-1.2) T10(4.4,-0.4) T11(4.4,0.4) T12(4.4,1.2) T13(4.4,2) T14(4.4,2.8) T15(4.4,3.6) T16(4.4,4.4) T17(4.4,5.2) T19(4.4,6.8) T20(4.4,7.6) U1(5.2,-7.6) U2(5.2,-6.8) U4(5.2,-5.2) U5(5.2,-4.4) U6(5.2,-3.6) U7(5.2,-2.8) U8(5.2,-2) U9(5.2,-1.2) U10(5.2,-0.4) U11(5.2,0.4) U12(5.2,1.2) U13(5.2,2) U14(5.2,2.8) U15(5.2,3.6) U16(5.2,4.4) U17(5.2,5.2) U19(5.2,6.8) U20(5.2,7.6) V1(6,-7.6) V2(6,-6.8) V19(6,6.8) V20(6,7.6) W1(6.8,-7.6) W2(6.8,-6.8) W3(6.8,-6) W4(6.8,-5.2) W5(6.8,-4.4) W6(6.8,-3.6) W7(6.8,-2.8) W8(6.8,-2) W9(6.8,-1.2) W10(6.8,-0.4) W11(6.8,0.4) W12(6.8,1.2) W13(6.8,2) W14(6.8,2.8) W15(6.8,3.6) W16(6.8,4.4) W17(6.8,5.2) W18(6.8,6) W19(6.8,6.8) W20(6.8,7.6) Y1(7.6,-7.6) Y2(7.6,-6.8) Y3(7.6,-6) Y4(7.6,-5.2) Y5(7.6,-4.4) Y6(7.6,-3.6) Y7(7.6,-2.8) Y8(7.6,-2) Y9(7.6,-1.2) Y10(7.6,-0.4) Y11(7.6,0.4) Y12(7.6,1.2) Y13(7.6,2) Y14(7.6,2.8) Y15(7.6,3.6) Y16(7.6,4.4) Y17(7.6,5.2) Y18(7.6,6) Y19(7.6,6.8) Y20(7.6,7.6)
Top Overlay:
  circle w0.4: c-7.62,-9.32 r0.2
  region: -8.576,-8.576 -7.856,-8.576 -8.576,-7.856
  lines w0.152: -8.805,-7.856 -8.805,-8.805 -7.856,-8.805 ; -8.576,-8.576 8.576,-8.576 8.576,8.576 -8.576,8.576 -8.576,-8.576
Top Paste:
  drawing of 292 lines, arcs and shapes, not listed
Mechanical 6:
  circle w0.6: c-7.6,-7.62 r0.3
  region: -8.576,-8.576 -7.856,-8.576 -8.576,-7.856
Mechanical 15:
  drawing of 297 lines, arcs and shapes, not listed

## SOP-16_L9.9-W3.9-P1.27-LS6.0-BL [mm]
pads (16):
  oval 0.574x2.038 smd: 1(-4.445,-2.769) 2(-3.175,-2.769) 3(-1.905,-2.769) 4(-0.635,-2.769) 5(0.635,-2.769) 6(1.905,-2.769) 7(3.175,-2.769) 8(4.445,-2.769) 9(4.445,2.769) 10(3.175,2.769) 11(1.905,2.769) 12(0.635,2.769) 13(-0.635,2.769) 14(-1.905,2.769) 15(-3.175,2.769) 16(-4.445,2.769)
Top Overlay:
  circle w0.3: c-4.445,-0.769 r0.15
  circle w0.3: c-5.184,-2.769 r0.15
  lines w0.152: -5.026,-1.521 5.026,-1.521 5.026,1.521 -5.026,1.521 -5.026,-1.521
Mechanical 6:
  circle w0.3: c-4.445,-3.4 r0.15
Mechanical 15:
  drawing of 37 lines, arcs and shapes, not listed

## STM32最小系统3 [mm]
pads (32):
  rect 1.7x1.7 hole 0.9: 1(-18.542,12.827) 32(-18.542,-10.922)
  round 1.7 hole 0.9: 2(-16.002,12.827) 3(-13.462,12.827) 4(-10.922,12.827) 5(-8.382,12.827) 6(-5.842,12.827) 7(-3.302,12.827) 8(-0.762,12.827) 9(1.778,12.827) 10(4.318,12.827) 11(6.858,12.827) 12(9.398,12.827) 13(11.938,12.827) 14(14.478,12.827) 15(17.018,12.827) 16(19.558,12.827) 17(19.558,-10.922) 18(17.018,-10.922) 19(14.478,-10.922) 20(11.938,-10.922) 21(9.398,-10.922) 22(6.858,-10.922) 23(4.318,-10.922) 24(1.778,-10.922) 25(-0.762,-10.922) 26(-3.302,-10.922) 27(-5.842,-10.922) 28(-8.382,-10.922) 29(-10.922,-10.922) 30(-13.462,-10.922) 31(-16.002,-10.922)
Top Overlay:
  lines w0.2: -17.292,-12.172 -17.292,-9.672 ; -17.292,11.577 -17.292,14.077 ; -19.812,-12.192 20.828,-12.192 20.828,-9.652 -17.907,-9.652 -19.812,-9.652 -19.812,-12.192 ; -19.812,11.557 20.828,11.557 20.828,14.097 -17.907,14.097 -19.812,14.097 -19.812,11.557
  lines w0.254: -24.638,-12.446 -24.638,14.224 ; 29.21,-12.192 29.21,14.097
3D body "HDR2.54-1P.STEP": height 8.5, standoff -3, extent -19.812,11.557 -17.272,14.097
3D body "HDR2.54-1P.STEP": height 8.5, standoff -3, extent 18.288,11.557 20.828,14.097
3D body "HDR2.54-1P.STEP": height 8.5, standoff -3, extent 13.208,11.557 15.748,14.097
3D body "HDR2.54-1P.STEP": height 8.5, standoff -3, extent 15.748,11.557 18.288,14.097
3D body "HDR2.54-1P.STEP": height 8.5, standoff -3, extent 8.128,11.557 10.668,14.097
3D body "HDR2.54-1P.STEP": height 8.5, standoff -3, extent 10.668,11.557 13.208,14.097
3D body "HDR2.54-1P.STEP": height 8.5, standoff -3, extent 5.588,11.557 8.128,14.097
3D body "HDR2.54-1P.STEP": height 8.5, standoff -3, extent 0.508,11.557 3.048,14.097
3D body "HDR2.54-1P.STEP": height 8.5, standoff -3, extent 3.048,11.557 5.588,14.097
3D body "HDR2.54-1P.STEP": height 8.5, standoff -3, extent -4.572,11.557 -2.032,14.097
3D body "HDR2.54-1P.STEP": height 8.5, standoff -3, extent -2.032,11.557 0.508,14.097
3D body "HDR2.54-1P.STEP": height 8.5, standoff -3, extent -7.112,11.557 -4.572,14.097
3D body "HDR2.54-1P.STEP": height 8.5, standoff -3, extent -12.192,11.557 -9.652,14.097
3D body "HDR2.54-1P.STEP": height 8.5, standoff -3, extent -9.652,11.557 -7.112,14.097
3D body "HDR2.54-1P.STEP": height 8.5, standoff -3, extent -17.272,11.557 -14.732,14.097
3D body "HDR2.54-1P.STEP": height 8.5, standoff -3, extent -14.732,11.557 -12.192,14.097
3D body "HDR2.54-1P.STEP": height 8.5, standoff -3, extent -19.812,-12.192 -17.272,-9.652
3D body "HDR2.54-1P.STEP": height 8.5, standoff -3, extent 18.288,-12.192 20.828,-9.652
3D body "HDR2.54-1P.STEP": height 8.5, standoff -3, extent 13.208,-12.192 15.748,-9.652
3D body "HDR2.54-1P.STEP": height 8.5, standoff -3, extent 15.748,-12.192 18.288,-9.652
3D body "HDR2.54-1P.STEP": height 8.5, standoff -3, extent 8.128,-12.192 10.668,-9.652
3D body "HDR2.54-1P.STEP": height 8.5, standoff -3, extent 10.668,-12.192 13.208,-9.652
3D body "HDR2.54-1P.STEP": height 8.5, standoff -3, extent 5.588,-12.192 8.128,-9.652
3D body "HDR2.54-1P.STEP": height 8.5, standoff -3, extent 0.508,-12.192 3.048,-9.652
3D body "HDR2.54-1P.STEP": height 8.5, standoff -3, extent 3.048,-12.192 5.588,-9.652
3D body "HDR2.54-1P.STEP": height 8.5, standoff -3, extent -4.572,-12.192 -2.032,-9.652
3D body "HDR2.54-1P.STEP": height 8.5, standoff -3, extent -2.032,-12.192 0.508,-9.652
3D body "HDR2.54-1P.STEP": height 8.5, standoff -3, extent -7.112,-12.192 -4.572,-9.652
3D body "HDR2.54-1P.STEP": height 8.5, standoff -3, extent -12.192,-12.192 -9.652,-9.652
3D body "HDR2.54-1P.STEP": height 8.5, standoff -3, extent -9.652,-12.192 -7.112,-9.652
3D body "HDR2.54-1P.STEP": height 8.5, standoff -3, extent -17.272,-12.192 -14.732,-9.652
3D body "HDR2.54-1P.STEP": height 8.5, standoff -3, extent -14.732,-12.192 -12.192,-9.652

## stm32最小系统板_电赛 [mm]
pads (124):
  rect 1.5x1.5 hole 0.9: 1(0.127,0.508) 31(5.207,-40.132) 63(48.387,-35.052) 93(43.307,5.588)
  round 1.5 hole 0.9: 2(2.667,0.508) 3(0.127,-2.032) 4(2.667,-2.032) 5(0.127,-4.572) 6(2.667,-4.572) 7(0.127,-7.112) 8(2.667,-7.112) 9(0.127,-9.652) 10(2.667,-9.652) 11(0.127,-12.192) 12(2.667,-12.192) 13(0.127,-14.732) 14(2.667,-14.732) 15(0.127,-17.272) 16(2.667,-17.272) 17(0.127,-19.812) 18(2.667,-19.812) 19(0.127,-22.352) 20(2.667,-22.352) 21(0.127,-24.892) 22(2.667,-24.892) 23(0.127,-27.432) 24(2.667,-27.432) 25(0.127,-29.972) 26(2.667,-29.972) 27(0.127,-32.512) 28(2.667,-32.512) 29(0.127,-35.052) 30(2.667,-35.052) 32(5.207,-37.592) 33(7.747,-40.132) 34(7.747,-37.592) 35(10.287,-40.132) 36(10.287,-37.592) 37(12.827,-40.132) 38(12.827,-37.592) 39(15.367,-40.132) 40(15.367,-37.592) 41(17.907,-40.132) 42(17.907,-37.592) 43(20.447,-40.132) 44(20.447,-37.592) 45(22.987,-40.132) 46(22.987,-37.592) 47(25.527,-40.132) 48(25.527,-37.592) 49(28.067,-40.132) 50(28.067,-37.592) 51(30.607,-40.132) 52(30.607,-37.592) 53(33.147,-40.132) 54(33.147,-37.592) 55(35.687,-40.132) 56(35.687,-37.592) 57(38.227,-40.132) 58(38.227,-37.592) 59(40.767,-40.132) 60(40.767,-37.592) 61(43.307,-40.132) 62(43.307,-37.592) 64(45.847,-35.052) 65(48.387,-32.512) 66(45.847,-32.512) 67(48.387,-29.972) 68(45.847,-29.972) 69(48.387,-27.432) 70(45.847,-27.432) 71(48.387,-24.892) 72(45.847,-24.892) 73(48.387,-22.352) 74(45.847,-22.352) 75(48.387,-19.812) 76(45.847,-19.812) 77(48.387,-17.272) 78(45.847,-17.272) 79(48.387,-14.732) 80(45.847,-14.732) 81(48.387,-12.192) 82(45.847,-12.192) 83(48.387,-9.652) 84(45.847,-9.652) 85(48.387,-7.112) 86(45.847,-7.112) 87(48.387,-4.572) 88(45.847,-4.572) 89(48.387,-2.032) 90(45.847,-2.032) 91(48.387,0.508) 92(45.847,0.508) 94(43.307,3.048) 95(40.767,5.588) 96(40.945,3.073) 97(38.227,5.588) 98(38.227,3.048) 99(35.687,5.588) 100(35.687,3.048) 101(33.147,5.588) 102(33.147,3.048) 103(30.607,5.588) 104(30.607,3.048) 105(28.067,5.588) 106(28.067,3.048) 107(25.527,5.588) 108(25.527,3.048) 109(22.987,5.588) 110(22.987,3.048) 111(20.447,5.588) 112(20.447,3.048) 113(17.907,5.588) 114(17.907,3.048) 115(15.367,5.588) 116(15.367,3.048) 117(12.827,5.588) 118(12.827,3.048) 119(10.287,5.588) 120(10.287,3.048) 121(7.747,5.588) 122(7.747,3.048) 123(5.207,5.588) 124(5.207,3.048)
Top Overlay:
  lines w0.2: 3.937,-36.322 44.577,-36.322 ; 3.937,-36.322 3.937,-41.402 44.577,-41.402 44.577,-36.322 ; 3.937,-36.322 3.937,1.778 ; 3.937,-36.322 -1.143,-36.322 -1.143,1.778 3.937,1.778 ; 3.937,1.778 44.577,1.778 ; 3.937,1.778 3.937,6.858 44.577,6.858 44.577,1.778 ; 44.577,-36.322 44.577,1.778 ; 44.577,-36.322 49.657,-36.322 49.657,1.778 44.577,1.778

## TC377_CoreBoard [mm] "逐飞科技TC377核心板"
pads (122):
  round 1.5 hole 0.9: 1(0,0) 2(2.54,0) 3(0,-2.54) 4(2.54,-2.54) 5(0,-5.08) 6(2.54,-5.08) 7(0,-7.62) 8(2.54,-7.62) 9(0,-10.16) 10(2.54,-10.16) 11(0,-12.7) 12(2.54,-12.7) 13(0,-15.24) 14(2.54,-15.24) 15(0,-17.78) 16(2.54,-17.78) 17(0,-20.32) 18(2.54,-20.32) 19(0,-22.86) 20(2.54,-22.86) 21(0,-25.4) 22(2.54,-25.4) 23(0,-27.94) 24(2.54,-27.94) 25(0,-30.48) 26(2.54,-30.48) 27(0,-33.02) 28(2.54,-33.02) 29(0,-35.56) 30(2.54,-35.56) 31(0,-38.1) 32(2.54,-38.1) 33(0,-40.64) 34(2.54,-40.64) 35(0,-43.18) 36(2.54,-43.18) 37(0,-45.72) 38(2.54,-45.72) 39(0,-48.26) 40(2.54,-48.26) 41(5.08,-48.26) 42(5.08,-45.72) 43(7.62,-48.26) 44(7.62,-45.72) 45(10.16,-48.26) 46(10.16,-45.72) 47(12.7,-48.26) 48(12.7,-45.72) 49(27.94,-45.72) 50(27.94,-48.26) 51(30.48,-45.72) 52(30.48,-48.26) 53(33.02,-45.72) 54(33.02,-48.26) 55(35.56,-45.72) 56(35.56,-48.26) 57(38.1,-48.26) 58(40.64,-48.26) 59(38.1,-45.72) 60(40.64,-45.72) 61(38.1,-43.18) 62(40.64,-43.18) 63(38.1,-40.64) 64(40.64,-40.64) 65(38.1,-38.1) 66(40.64,-38.1) 67(38.1,-35.56) 68(40.64,-35.56) 69(38.1,-33.02) 70(40.64,-33.02) 71(38.1,-30.48) 72(40.64,-30.48) 73(38.1,-27.94) 74(40.64,-27.94) 75(38.1,-25.4) 76(40.64,-25.4) 77(38.1,-22.86) 78(40.64,-22.86) 79(38.1,-20.32) 80(40.64,-20.32) 81(38.1,-17.78) 82(40.64,-17.78) 83(38.1,-15.24) 84(40.64,-15.24) 85(38.1,-12.7) 86(40.64,-12.7) 87(38.1,-10.16) 88(40.64,-10.16) 89(38.1,-7.62) 90(40.64,-7.62) 91(38.1,-5.08) 92(40.64,-5.08) 93(38.1,-2.54) 94(40.64,-2.54) 95(38.1,0) 96(40.64,0) 97(35.56,-2.54) 98(35.56,0) 99(33.02,-2.54) 100(33.02,0) 101(30.48,-2.54) 102(30.48,0) 103(27.94,-2.54) 104(27.94,0) 105(25.4,-2.54) 106(25.4,0) 107(22.86,-2.54) 108(22.86,0) 109(20.32,-2.54) 110(20.32,0) 111(17.78,-2.54) 112(17.78,0) 113(15.24,-2.54) 114(15.24,0) 115(12.7,-2.54) 116(12.7,0) 117(10.16,-2.54) 118(10.16,0) 119(7.62,-2.54) 120(7.62,0) 121(5.08,-2.54) 122(5.08,0)
Top Overlay:
  lines w0.254: -1.905,-48.26 ccw(c0,-48.26) 0,-50.165 40.64,-50.165 ccw(c40.64,-48.26) 42.545,-48.26 42.545,0 ccw(c40.64,0) 40.64,1.905 0,1.905 ccw(c0,0) -1.905,0 -1.905,-48.26 ; 13.97,-49.53 26.67,-49.53 26.67,-44.45 13.97,-44.45 13.97,-49.53

## UFBGA-201_L10.0-W10.0-P0.65-TL_STM32H743IIK6 [mm] "UFBGA-201; BGA-176(10x10); -; BGA-176"
height 4999.99
pads (201):
  round 0.3 smd mask+0.05: A1(-4.55,4.55) A2(-3.9,4.55) A3(-3.25,4.55) A4(-2.6,4.55) A5(-1.95,4.55) A6(-1.3,4.55) A7(-0.65,4.55) A8(0,4.55) A9(0.65,4.55) A10(1.3,4.55) A11(1.95,4.55) A12(2.6,4.55) A13(3.25,4.55) A14(3.9,4.55) A15(4.55,4.55) B1(-4.55,3.9) B2(-3.9,3.9) B3(-3.25,3.9) B4(-2.6,3.9) B5(-1.95,3.9) B6(-1.3,3.9) B7(-0.65,3.9) B8(0,3.9) B9(0.65,3.9) B10(1.3,3.9) B11(1.95,3.9) B12(2.6,3.9) B13(3.25,3.9) B14(3.9,3.9) B15(4.55,3.9) C1(-4.55,3.25) C2(-3.9,3.25) C3(-3.25,3.25) C4(-2.6,3.25) C5(-1.95,3.25) C6(-1.3,3.25) C7(-0.65,3.25) C8(0,3.25) C9(0.65,3.25) C10(1.3,3.25) C11(1.95,3.25) C12(2.6,3.25) C13(3.25,3.25) C14(3.9,3.25) C15(4.55,3.25) D1(-4.55,2.6) D2(-3.9,2.6) D3(-3.25,2.6) D4(-2.6,2.6) D5(-1.95,2.6) D6(-1.3,2.6) D7(-0.65,2.6) D8(0,2.6) D9(0.65,2.6) D10(1.3,2.6) D11(1.95,2.6) D12(2.6,2.6) D13(3.25,2.6) D14(3.9,2.6) D15(4.55,2.6) E1(-4.55,1.95) E2(-3.9,1.95) E3(-3.25,1.95) E4(-2.6,1.95) E12(2.6,1.95) E13(3.25,1.95) E14(3.9,1.95) E15(4.55,1.95) F1(-4.55,1.3) F2(-3.9,1.3) F3(-3.25,1.3) F4(-2.6,1.3) F6(-1.3,1.3) F7(-0.65,1.3) F8(0,1.3) F9(0.65,1.3) F10(1.3,1.3) F12(2.6,1.3) F13(3.25,1.3) F14(3.9,1.3) F15(4.55,1.3) G1(-4.55,0.65) G2(-3.9,0.65) G3(-3.25,0.65) G4(-2.6,0.65) G6(-1.3,0.65) G7(-0.65,0.65) G8(0,0.65) G9(0.65,0.65) G10(1.3,0.65) G12(2.6,0.65) G13(3.25,0.65) G14(3.9,0.65) G15(4.55,0.65) H1(-4.55,0) H2(-3.9,0) H3(-3.25,0) H4(-2.6,0) H6(-1.3,0) H7(-0.65,0) H8(0,0) H9(0.65,0) H10(1.3,0) H12(2.6,0) H13(3.25,0) H14(3.9,0) H15(4.55,0) J1(-4.55,-0.65) J2(-3.9,-0.65) J3(-3.25,-0.65) J4(-2.6,-0.65) J6(-1.3,-0.65) J7(-0.65,-0.65) J8(0,-0.65) J9(0.65,-0.65) J10(1.3,-0.65) J12(2.6,-0.65) J13(3.25,-0.65) J14(3.9,-0.65) J15(4.55,-0.65) K1(-4.55,-1.3) K2(-3.9,-1.3) K3(-3.25,-1.3) K4(-2.6,-1.3) K6(-1.3,-1.3) K7(-0.65,-1.3) K8(0,-1.3) K9(0.65,-1.3) K10(1.3,-1.3) K12(2.6,-1.3) K13(3.25,-1.3) K14(3.9,-1.3) K15(4.55,-1.3) L1(-4.55,-1.95) L2(-3.9,-1.95) L3(-3.25,-1.95) L4(-2.6,-1.95) L12(2.6,-1.95) L13(3.25,-1.95) L14(3.9,-1.95) L15(4.55,-1.95) M1(-4.55,-2.6) M2(-3.9,-2.6) M3(-3.25,-2.6) M4(-2.6,-2.6) M5(-1.95,-2.6) M6(-1.3,-2.6) M7(-0.65,-2.6) M8(0,-2.6) M9(0.65,-2.6) M10(1.3,-2.6) M11(1.95,-2.6) M12(2.6,-2.6) M13(3.25,-2.6) M14(3.9,-2.6) M15(4.55,-2.6) N1(-4.55,-3.25) N2(-3.9,-3.25) N3(-3.25,-3.25) N4(-2.6,-3.25) N5(-1.95,-3.25) N6(-1.3,-3.25) N7(-0.65,-3.25) N8(0,-3.25) N9(0.65,-3.25) N10(1.3,-3.25) N11(1.95,-3.25) N12(2.6,-3.25) N13(3.25,-3.25) N14(3.9,-3.25) N15(4.55,-3.25) P1(-4.55,-3.9) P2(-3.9,-3.9) P3(-3.25,-3.9) P4(-2.6,-3.9) P5(-1.95,-3.9) P6(-1.3,-3.9) P7(-0.65,-3.9) P8(0,-3.9) P9(0.65,-3.9) P10(1.3,-3.9) P11(1.95,-3.9) P12(2.6,-3.9) P13(3.25,-3.9) P14(3.9,-3.9) P15(4.55,-3.9) R1(-4.55,-4.55) R2(-3.9,-4.55) R3(-3.25,-4.55) R4(-2.6,-4.55) R5(-1.95,-4.55) R6(-1.3,-4.55) R7(-0.65,-4.55) R8(0,-4.55) R9(0.65,-4.55) R10(1.3,-4.55) R11(1.95,-4.55) R12(2.6,-4.55) R13(3.25,-4.55) R14(3.9,-4.55) R15(4.55,-4.55)
Top Overlay:
  circle w0.254: c-5.394,5.458 r0.102
  region: -4.94,5 -4.941,5.012 -4.945,5.023 -4.95,5.033 -4.958,5.042 -4.967,5.05 -4.977,5.055 -4.988,5.059 -5,5.06 -5.012,5.059 -5.023,5.055 -5.033,5.05 -5.042,5.042 -5.05,5.033 -5.055,5.023 -5.059,5.012 -5.06,5 -5.059,4.988 -5.055,4.977 -5.05,4.967 -5.042,4.958 -5.033,4.95 -5.023,4.945 -5.012,4.941 -5,4.94 -4.988,4.941 -4.977,4.945 -4.967,4.95 -4.958,4.958 -4.95,4.967 -4.945,4.977 -4.941,4.988
  lines w0.254: -5.08,-5.08 -5.08,5.08 5.08,5.08 5.08,-5.08 -5.08,-5.08
Bottom Component Outline:
  circle w0.2: c-4.572,4.699 r0.1
Mechanical 9:
  drawing of 201 lines, arcs and shapes, not listed
3D body "UFBGA-201_L10.0-W10.0-H0.5-P0.65-TL_STM32H743IIK6.step": height 0.5, standoff 0, extent -5,-5 5,5

## UFQFPN-28_L4.0-W4.0-P0.50-BL [mm]
pads (28):
  oval 0.3x0.675 smd: 1(-1.5,-1.875) 7(1.5,-1.875) 15(1.5,1.875) 21(-1.5,1.875)
  rect 0.3x0.7 smd paste+0 mask+0.05: 2(-1,-1.925) 3(-0.5,-1.925) 4(0,-1.925) 5(0.5,-1.925) 6(1,-1.925) 16(1,1.925) 17(0.5,1.925) 18(0,1.925) 19(-0.5,1.925) 20(-1,1.925)
  oval 0.675x0.3 smd: 8(1.875,-1.5) 14(1.875,1.5) 22(-1.875,1.5) 28(-1.875,-1.5)
  rect 0.7x0.3 smd paste+0 mask+0.05: 9(1.925,-1) 10(1.925,-0.5) 11(1.925,0) 12(1.925,0.5) 13(1.925,1) 24(-1.925,0.5) 25(-1.925,0) 26(-1.925,-0.5) 27(-1.925,-1)
  oval 0.7x0.3 smd: 23(-1.925,1)
Top Layer:
  region: 1.65,-1.85 1.65,-2.275 1.35,-2.275 1.35,-1.6 1.4,-1.6
  region: 1.85,-1.65 2.275,-1.65 2.275,-1.35 1.6,-1.35 1.6,-1.4
  region: -1.85,-1.65 -2.275,-1.65 -2.275,-1.35 -1.6,-1.35 -1.6,-1.4
  region: -1.65,-1.85 -1.65,-2.275 -1.35,-2.275 -1.35,-1.6 -1.4,-1.6
  region: -1.65,1.85 -1.65,2.275 -1.35,2.275 -1.35,1.6 -1.4,1.6
  region: -1.85,1.65 -2.275,1.65 -2.275,1.35 -1.6,1.35 -1.6,1.4
  region: 1.65,1.85 1.65,2.275 1.35,2.275 1.35,1.6 1.4,1.6
  region: 1.85,1.65 2.275,1.65 2.275,1.35 1.6,1.35 1.6,1.4
  region: -2.275,1.15 -1.575,1.15 -1.575,0.85 -2.275,0.85
Top Overlay:
  circle w0.2: c-1.97,-2.405 r0.1
  lines w0.152: -2.076,-1.831 -2.076,-2.076 -1.831,-2.076 ; -2.076,1.831 -2.076,2.076 -1.831,2.076 ; 1.831,-2.076 2.076,-2.076 2.076,-1.831 ; 1.831,2.076 2.076,2.076 2.076,1.831
Mechanical 6:
  circle w0.2: c-1.495,-2.135 r0.1
Mechanical 15:
  drawing of 33 lines, arcs and shapes, not listed